# Altium schematic symbol library MOSFET-P4.Schlib: 1 symbol
Pins are listed as number, name and electrical type; pins without a type are passive.

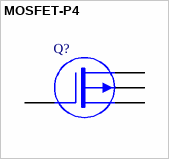
[diagram p0: symbol MOSFET-P4]

## MOSFET-P4
designator Q?
P-Channel MOSFET, Externally Terminated Substrate
pins: 1 G, 2 D, 3 U, 4 S